# EAGLE library part TSL230 (library Sleepwalker)
TAOS TSL230 light to frequency converter
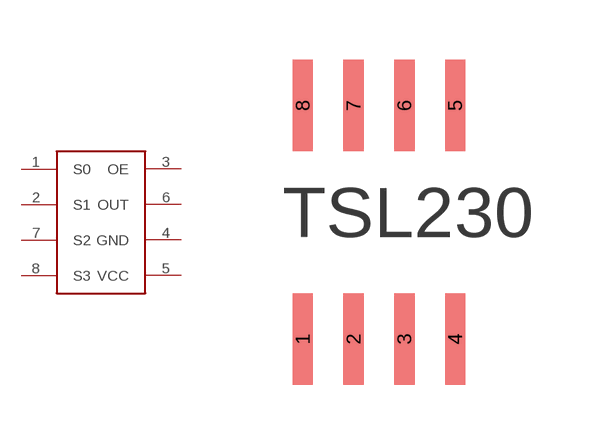
[diagram p0: symbol with the pads of TSL230-SOIC; footprint TSL230-SOIC]

Designator prefix -

## TSL230  [TSL230-SOIC]
1  S0
2  S1
3  OE
4  GND
5  VCC
6  OUT
7  S2
8  S3

## Footprint TSL230-SOIC (pad centres in mm)
smd 0.508 x 2.286: 1 -4.572,0.508; 2 -3.302,0.508; 3 -2.032,0.508; 4 -0.762,0.508; 5 -0.762,6.35; 6 -2.032,6.35; 7 -3.302,6.35; 8 -4.572,6.35